# EAGLE library part LP55231 (library GTA04b7)
9 fancy LED driver with I2C
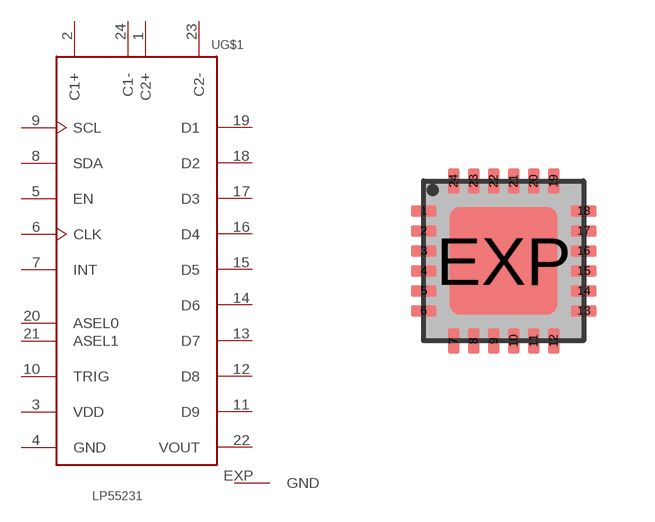
[diagram p25: symbol with the pads of QFN-24+E-0.5; footprint QFN-24+E-0.5]

Designator prefix -; gates G$1=LP5523 G$2=GND-PIN

## LP55231  [QFN-24+E-0.5]
1  G$1:C2+  out
2  G$1:C1+  out
3  G$1:VDD  pwr
4  G$1:GND  pwr
5  G$1:EN  in
6  G$1:CLK  in
7  G$1:INT  out
8  G$1:SDA
9  G$1:SCL  in
10  G$1:TRIG  in
11  G$1:D9  out
12  G$1:D8  out
13  G$1:D7  out
14  G$1:D6  out
15  G$1:D5  out
16  G$1:D4  out
17  G$1:D3  out
18  G$1:D2  out
19  G$1:D1  out
20  G$1:ASEL0  in
21  G$1:ASEL1  in
22  G$1:VOUT  pwr
23  G$1:C2-  out
24  G$1:C1-  out
EXP  G$2:GND  pwr

## Footprint QFN-24+E-0.5 (pad centres in mm)
QFN-24 + E 0.5mm
smd 0.65 x 0.3: 1 -2,1.25; 2 -2,0.75; 3 -2,0.25; 4 -2,-0.25; 5 -2,-0.75; 6 -2,-1.25; 13 2,-1.25; 14 2,-0.75; 15 2,-0.25; 16 2,0.25; 17 2,0.75; 18 2,1.25
smd 0.3 x 0.65: 7 -1.25,-2; 8 -0.75,-2; 9 -0.25,-2; 10 0.25,-2; 11 0.75,-2; 12 1.25,-2; 19 1.25,2; 20 0.75,2; 21 0.25,2; 22 -0.25,2; 23 -0.75,2; 24 -1.25,2
smd 2.7 x 2.7: EXP 0,0